# Altium schematic symbol library LMV321.SchLib: 1 symbol
Pins are listed as number, name and electrical type; pins without a type are passive.

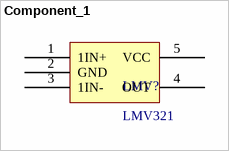
[diagram p0: symbol Component_1]

## Component_1
designator LMV?, comment LMV321
pins: 1 1IN+, 2 GND, 3 1IN-, 4 OUT, 5 VCC